# Altium footprint library UltiSID.PcbLib: 39 footprints (part 1 of 3)
Each footprint in its own frame and in the unit in brackets; x right, y up, seen from the top. Pads: shape width x height; smd on the part's side, far side on the other; paste and mask are expansions set on the pad; w line width, h text height; cw(c..) or ccw(c..) is an arc to the next point about the centre after c.
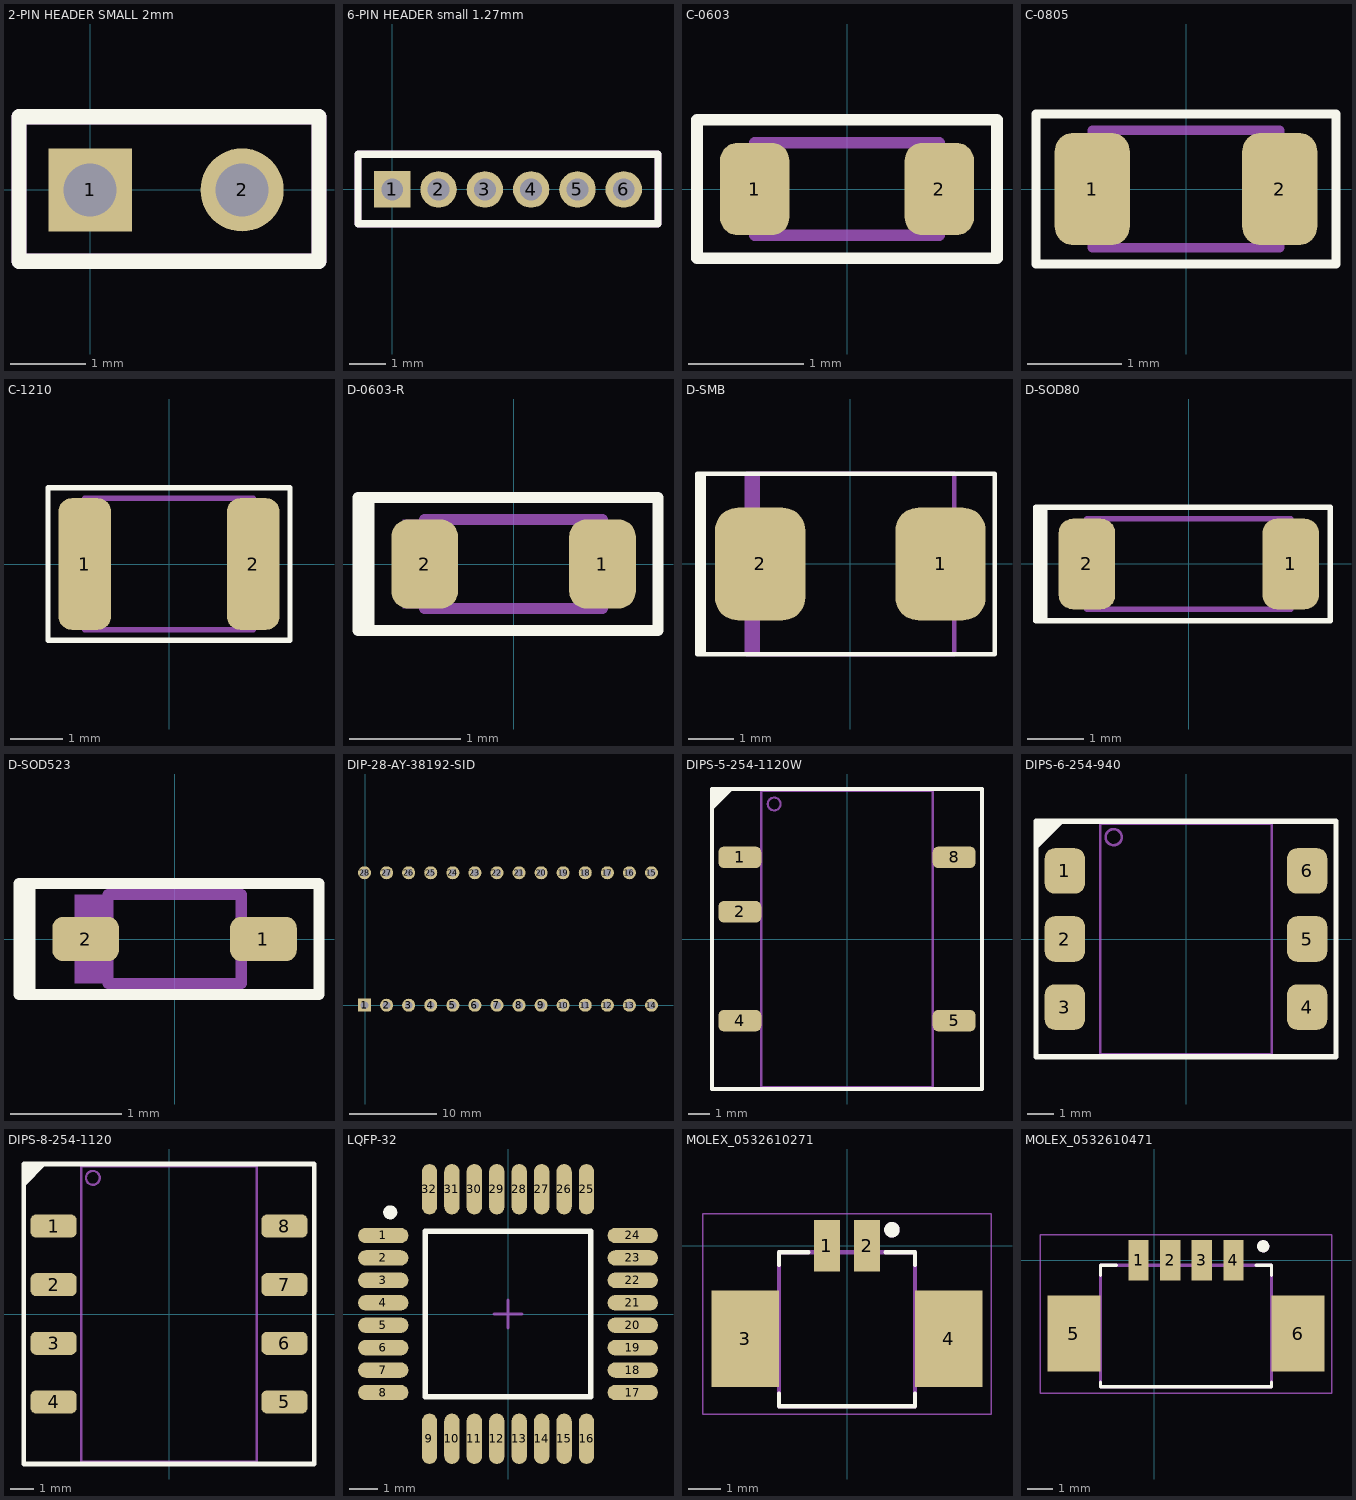
[diagram p0: the footprints below, top view; thin cyan lines are the x and y axes]

## 2-PIN HEADER SMALL 2mm [mm]
pads (2):
  rect 1.1x1.1 hole 0.7: 1(0,0)
  round 1.1 hole 0.7: 2(2.007,0)
Top Overlay:
  lines w0.203: -0.94,-0.94 -0.94,0.965 3.023,0.965 3.023,-0.94 -0.94,-0.94
Mechanical 1:
  lines w0.203: -0.94,-0.94 -0.94,0.965 3.023,0.965 3.023,-0.94 -0.94,-0.94

## 6-PIN HEADER small 1.27mm [mm]
pads (6):
  rect 1x1 hole 0.6: 1(0,0)
  round 1 hole 0.6: 2(1.27,0) 3(2.54,0) 4(3.81,0) 5(5.08,0) 6(6.35,0)
Top Overlay:
  lines w0.203: -0.94,-0.94 -0.94,0.965 7.29,0.965 7.29,-0.94 -0.94,-0.94
Mechanical 1:
  lines w0.203: -0.94,-0.94 -0.94,0.965 7.29,0.965 7.29,-0.94 -0.94,-0.94

## C-0603 [mm] "Chip Capacitor, Body 1.6x0.8mm"
height 0.8
pads (2):
  rrect50% 0.6x0.8 smd: 1(-0.8,0) 2(0.8,0)
Top Overlay:
  lines w0.1: -1.3,-0.6 -1.3,0.6 1.3,0.6 1.3,-0.6 -1.3,-0.6
Mechanical 1:
  lines w0.1: -0.8,-0.4 0.8,-0.4 0.8,0.4 -0.8,0.4 -0.8,-0.4
  text ".Designator" at -0.6,-0.2 h0.7
3D body "SMDCAP_0603.step": height 0.82, standoff 0.02, extent -0.8,-0.4 0.8,0.4

## C-0805 [mm] "Chip Capacitor, Body 2.0x1.25mm"
height 1.2
pads (2):
  rrect50% 0.8x1.2 smd: 1(-1,0) 2(1,0)
Top Overlay:
  lines w0.1: -1.6,-0.8 1.6,-0.8 1.6,0.8 -1.6,0.8 -1.6,-0.8
Mechanical 1:
  lines w0.1: -1,-0.625 -1,0.625 1,0.625 1,-0.625 -1,-0.625
  text ".Designator" at -0.8,-0.3 h0.7
3D body "SMDCAP_0805.step": height 0.62, standoff 0.02, extent -1,-0.625 1,0.625

## C-1210 [mm] "Chip Capacitor, Body 3.2x2.5mm"
height 2.5
pads (2):
  rrect50% 1x2.5 smd: 1(-1.6,0) 2(1.6,0)
Top Overlay:
  lines w0.1: -2.3,-1.45 -2.3,1.45 2.3,1.45 2.3,-1.45 -2.3,-1.45
Mechanical 1:
  lines w0.1: -1.6,-1.25 1.6,-1.25 1.6,1.25 -1.6,1.25 -1.6,-1.25
  text ".Designator" at -1.6,-0.45 h0.7
3D body "SMDCAP_1210.step": height 0.8, standoff 0.02, extent -1.6,-1.25 1.6,1.25

## D-0603-R [mm] "Chip Diod, Body 1.6x0.8mm"
height 0.5
pads (2):
  rrect50% 0.6x0.8 smd: 1(0.8,0) 2(-0.8,0)
Top Overlay:
  lines w0.1: -1.3,-0.6 -1.3,0.6 ; -1.4,-0.6 1.3,-0.6 1.3,0.6 -1.4,0.6 -1.4,-0.6
Mechanical 1:
  rectangle: -1,-0.4 -0.8,0.4
  lines w0.1: -0.8,-0.4 -0.8,0.4 0.8,0.4 0.8,-0.4 -0.8,-0.4
  text ".Designator" at -0.6,-0.2 h0.7
3D body "User Library-LED_0603_R.STEP": height 0.6, standoff 0, extent -0.8,-0.4 0.8,0.4

## D-SMB [mm] "Diode, Body 4.6x4.0mm"
height 2.5
pads (2):
  rrect50% 2x2.5 smd: 1(2,0) 2(-2,0)
Top Overlay:
  rectangle: -3.4,-2 -3.2,2
  lines w0.1: -3.4,-2 3.2,-2 3.2,2 -3.4,2 -3.4,-2
Mechanical 1:
  rectangle: -2.3,-2 -2,2
  lines w0.1: -2.3,-2 2.3,-2 2.3,2 -2.3,2 -2.3,-2
  text ".Designator" at -1.6,-0.4 h0.7
3D body "SMB.STEP": height 2.45, standoff 0.03, extent -2.746,-1.948 2.754,1.952

## D-SOD80 [mm] "Diode, Body 3.6x1.6mm"
height 1.6
pads (2):
  rrect50% 1x1.6 smd: 1(1.8,0) 2(-1.8,0)
Top Overlay:
  rectangle: -2.7,-1 -2.5,1
  lines w0.1: -2.7,-1 2.5,-1 2.5,1 -2.7,1 -2.7,-1
Mechanical 1:
  rectangle: -1.8,-0.8 -1.5,0.8
  lines w0.1: -1.8,-0.8 1.8,-0.8 1.8,0.8 -1.8,0.8 -1.8,-0.8
  text ".Designator" at -1.05,-0.6 h0.7
3D body: height 1.59, standoff 0, extent -1.8,-0.8 1.8,0.797

## D-SOD523 [mm] "Diode, Body 1.2x0.8mm"
height 0.6
pads (2):
  rrect50% 0.6x0.4 smd: 1(0.8,0) 2(-0.8,0)
Top Overlay:
  rectangle: -1.4,-0.5 -1.25,0.5
  lines w0.1: -1.4,-0.5 -1.4,0.5 1.3,0.5 1.3,-0.5 -1.4,-0.5
Mechanical 1:
  rectangle: -0.9,-0.4 -0.65,0.4
  lines w0.1: -0.6,-0.4 0.6,-0.4 0.6,0.4 -0.6,0.4 -0.6,-0.4
  text ".Designator" at -0.9,-1 h0.7
3D body "SOD-523F-1.step": height 0.7, standoff 0, extent -0.8,-0.399 0.8,0.399

## DIP-28-AY-38192-SID [mm] "CerDIP, Window; 28 Leads; Row Spacing 15.24 mm; Pitch 2.54 mm"
height 5.72
pads (28):
  rect 1.5x1.5 hole 0.9: 1(-0.085,0.03)
  round 1.5 hole 0.9: 2(2.455,0.03) 3(4.995,0.03) 4(7.535,0.03) 5(10.075,0.03) 6(12.615,0.03) 7(15.155,0.03) 8(17.695,0.03) 9(20.235,0.03) 10(22.775,0.03) 11(25.315,0.03) 12(27.855,0.03) 13(30.395,0.03) 14(32.935,0.03) 15(32.935,15.27) 16(30.395,15.27) 17(27.855,15.27) 18(25.315,15.27) 19(22.775,15.27) 20(20.235,15.27) 21(17.695,15.27) 22(15.155,15.27) 23(12.615,15.27) 24(10.075,15.27) 25(7.535,15.27) 26(4.995,15.27) 27(2.455,15.27) 28(-0.085,15.27)

## DIPS-5-254-1120W [mm] "DIP, 5-Leads, Body 8.0x13.8mm"
height 7.5
pads (5):
  rrect50% 2x1 smd: 1(-5,3.81) 2(-5,1.27) 4(-5,-3.81) 5(5,-3.81) 8(5,3.81)
Top Overlay:
  region: -6.3,6 -6.3,7 -5.3,7
  lines w0.2: -6.3,-7 -6.3,7 6.3,7 6.3,-7 -6.3,-7
Mechanical 1:
  circle w0.1: c-3.4,6.3 r0.3
  lines w0.1: -4,-6.9 -4,6.9 4,6.9 4,-6.9 -4,-6.9
  text ".Designator" at -3,2.55 h0.7
3D body: height 7.5, standoff 0.1, extent -4,-6.9 4,6.9

## DIPS-6-254-940 [mm] "DIP, 6-Leads, Body 6.4x8.6mm"
height 5.1
pads (6):
  rrect50% 1.5x1.7 smd: 1(-4.525,2.54) 2(-4.525,0) 3(-4.525,-2.54) 4(4.525,-2.54) 5(4.525,0) 6(4.525,2.54)
Top Overlay:
  region: -5.6,3.325 -5.6,4.4 -4.525,4.4
  lines w0.2: -5.6,-4.4 5.6,-4.4 5.6,4.4 -5.6,4.4 -5.6,-4.4
Mechanical 1:
  circle w0.1: c-2.7,3.8 r0.3
  lines w0.1: -3.2,-4.3 3.2,-4.3 3.2,4.3 -3.2,4.3 -3.2,-4.3
  text ".Designator" at -2.375,-0.725 h1.5
3D body "N06C_SMDIP-6.step": height 5.08, standoff 0, extent -4.95,-4.445 4.95,4.445

## DIPS-8-254-1120 [mm] "DIP, 8-Leads, Body 7.6x12.8mm"
height 6.5
pads (8):
  rrect50% 2x1 smd: 1(-5,3.81) 2(-5,1.27) 3(-5,-1.27) 4(-5,-3.81) 5(5,-3.81) 6(5,-1.27) 7(5,1.27) 8(5,3.81)
Top Overlay:
  region: -6.3,5.5 -6.3,6.5 -5.3,6.5
  lines w0.2: -6.3,-6.5 -6.3,6.5 6.3,6.5 6.3,-6.5 -6.3,-6.5
Mechanical 1:
  circle w0.1: c-3.3,5.9 r0.3
  lines w0.1: -3.8,-6.4 -3.8,6.4 3.8,6.4 3.8,-6.4 -3.8,-6.4
3D body: height 6.5, standoff 0.1, extent -3.8,-6.4 3.8,6.4

## LQFP-32 [mm] "Thin QFP, 32-Leads, Body 7x7mm, Pitch 0.8mm, IPC Medium Density"
height 1.2
pads (32):
  oval 1.8x0.55 smd: 1(-4.45,2.8) 2(-4.45,2) 3(-4.45,1.2) 4(-4.45,0.4) 5(-4.45,-0.4) 6(-4.45,-1.2) 7(-4.45,-2) 8(-4.45,-2.8) 17(4.45,-2.8) 18(4.45,-2) 19(4.45,-1.2) 20(4.45,-0.4) 21(4.45,0.4) 22(4.45,1.2) 23(4.45,2) 24(4.45,2.8)
  oval 0.55x1.8 smd: 9(-2.8,-4.45) 10(-2,-4.45) 11(-1.2,-4.45) 12(-0.4,-4.45) 13(0.4,-4.45) 14(1.2,-4.45) 15(2,-4.45) 16(2.8,-4.45) 25(2.8,4.45) 26(2,4.45) 27(1.2,4.45) 28(0.4,4.45) 29(-0.4,4.45) 30(-1.2,4.45) 31(-2,4.45) 32(-2.8,4.45)
Top Overlay:
  circle w0.25: c-4.2,3.625 r0.125
  lines w0.2: -2.95,-2.95 2.95,-2.95 2.95,2.95 -2.95,2.95 -2.95,-2.95
Mechanical 15:
  lines w0.1: -0.5,0 0.5,0 ; 0,-0.5 0,0.5

## MOLEX_0532610271 [mm]
height 5
pads (4):
  rect 0.8x1.6 smd: 1(-0.625,0) 2(0.625,0)
  rect 2.1x3 smd: 3(-3.175,-2.9) 4(3.175,-2.9)
Top Overlay:
  circle w0.24: c1.4,0.5 r0.12
  lines w0.127: -2.125,-4.6 -2.125,-5 2.125,-5 2.125,-4.6 ; -2.125,-0.6 -2.125,-0.2 -1.2,-0.2 ; 1.2,-0.2 2.125,-0.2 2.125,-0.6
Mechanical 13:
  circle w0.24: c1.4,0.5 r0.12
  lines w0.127: -2.125,-5 -2.125,-0.2 2.125,-0.2 2.125,-5 -2.125,-5
Mechanical 15:
  lines w0.05: -4.5,-5.25 -4.5,1 4.5,1 4.5,-5.25 -4.5,-5.25
3D body "532610271.stp": height 3.4, standoff 0, extent -3.825,-4.725 3.825,0.475

## MOLEX_0532610471 [mm] "1.25mm PicoBlade PCB Header"
height 5
pads (6):
  rect 0.8x1.6 smd: 1(-0.625,0) 2(0.625,0) 3(1.875,0) 4(3.125,0)
  rect 2.1x3 smd: 5(-3.175,-2.9) 6(5.675,-2.9)
Top Overlay:
  circle w0.24: c4.3,0.55 r0.12
  lines w0.127: -2.125,-4.825 -2.125,-5 4.625,-5 4.625,-4.825 ; -2.125,-0.6 -2.125,-0.2 -1.5,-0.2 ; 4.025,-0.2 4.625,-0.2 4.625,-0.6
Mechanical 13:
  circle w0.24: c4.3,0.55 r0.12
  lines w0.127: -2.125,-5 -2.125,-0.2 4.625,-0.2 4.625,-5 -2.125,-5
Mechanical 15:
  lines w0.05: 7,-2 7,-1.5 7,1 4.5,1 -4.5,1 -4.5,-5.25 7,-5.25 7,-3.713 7,-1.965
3D body "532610471.stp": height 3.4, standoff 0, extent -3.8,-4.725 6.35,0.475